# Altium footprint library SCREW_M2.PcbLib: 1 footprints
Each footprint in its own frame and in the unit in brackets; x right, y up, seen from the top. Pads: shape width x height; smd on the part's side, far side on the other; paste and mask are expansions set on the pad; w line width, h text height; cw(c..) or ccw(c..) is an arc to the next point about the centre after c.
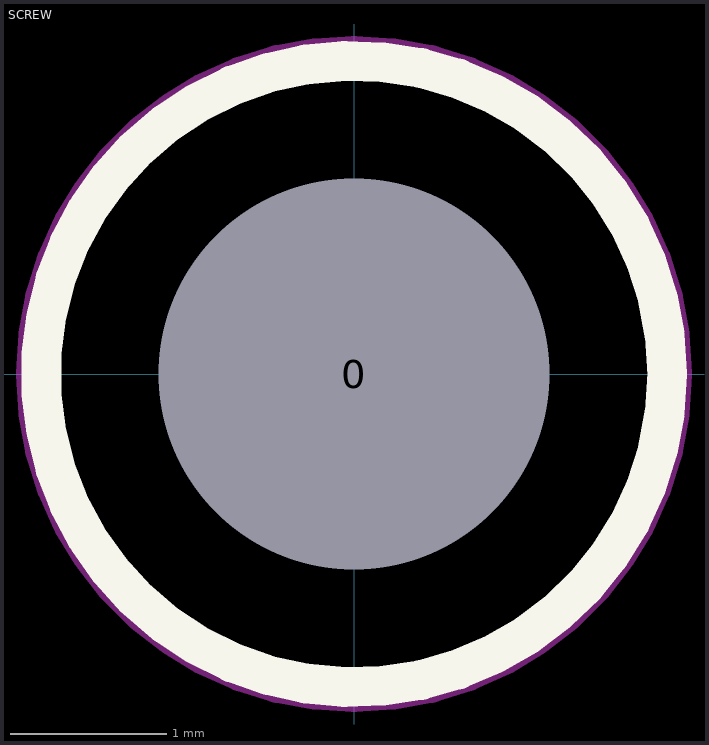
[diagram p0: the footprint, top view; thin cyan lines are the x and y axes]

## SCREW [mil]
height 60
pads (1):
  round 60 hole 98.43: 0(0,0)
Top Overlay:
  circle w10: c0,0 r78.74
Bottom Overlay:
  circle w10: c0,0 r78.74
Keep-Out Layer:
  circle w10: c0,0 r80